# Altium schematic symbol library AD8343ARUZ.Schlib: 1 symbol
Pins are listed as number, name and electrical type; pins without a type are passive.

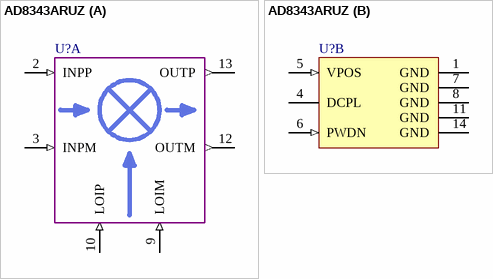
[diagram p0: symbol AD8343ARUZ]

## AD8343ARUZ
designator U?  (value not drawn)
High IP-3 Active Mixer
part A pins: 2 INPP (in), 3 INPM (in), 9 LOIM (in), 10 LOIP (in), 12 OUTM (out), 13 OUTP (out)
part B pins: 1 GND (power), 4 DCPL, 5 VPOS (in), 6 PWDN (in), 7 GND (power), 8 GND (power), 11 GND (power), 14 GND (power)